# Altium footprint library IDC_100_2x17.PcbLib: 1 footprints
Each footprint in its own frame and in the unit in brackets; x right, y up, seen from the top. Pads: shape width x height; smd on the part's side, far side on the other; paste and mask are expansions set on the pad; w line width, h text height; cw(c..) or ccw(c..) is an arc to the next point about the centre after c.
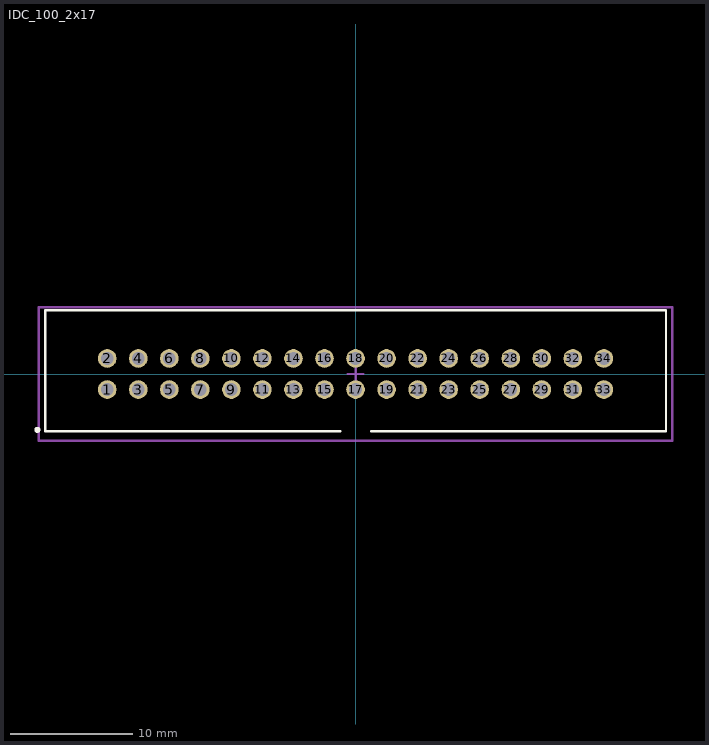
[diagram p0: the footprint, top view; thin cyan lines are the x and y axes]

## IDC_100_2x17 [mil]
pads (34):
  round 60 hole 41: 1(-800,-50) 2(-800,50) 3(-700,-50) 4(-700,50) 5(-600,-50) 6(-600,50) 7(-500,-50) 8(-500,50) 9(-400,-50) 10(-400,50) 11(-300,-50) 12(-300,50) 13(-200,-50) 14(-200,50) 15(-100,-50) 16(-100,50) 17(0,-50) 18(0,50) 19(100,-50) 20(100,50) 21(200,-50) 22(200,50) 23(300,-50) 24(300,50) 25(400,-50) 26(400,50) 27(500,-50) 28(500,50) 29(600,-50) 30(600,50) 31(700,-50) 32(700,50) 33(800,-50) 34(800,50)
Top Overlay:
  circle w10: c-1025,-180 r5
  lines w7.87: -50,-185 -1000,-185 -1000,205 1000,205 1000,-185 50,-185
Mechanical 15:
  lines w7.87: -25,0 25,0 ; 0,-25 0,25 ; -1020,-215 -1020,215 1020,215 1020,-215 -1020,-215
3D body "75869106lf.stp": height 367.56, standoff -119.44, extent -991.93,-175 991.93,189.96